# Altium footprint library 6U6DA_0107.PcbLib: 53 footprints (part 3 of 4)
Each footprint in its own frame and in the unit in brackets; x right, y up, seen from the top. Pads: shape width x height; smd on the part's side, far side on the other; paste and mask are expansions set on the pad; w line width, h text height; cw(c..) or ccw(c..) is an arc to the next point about the centre after c.
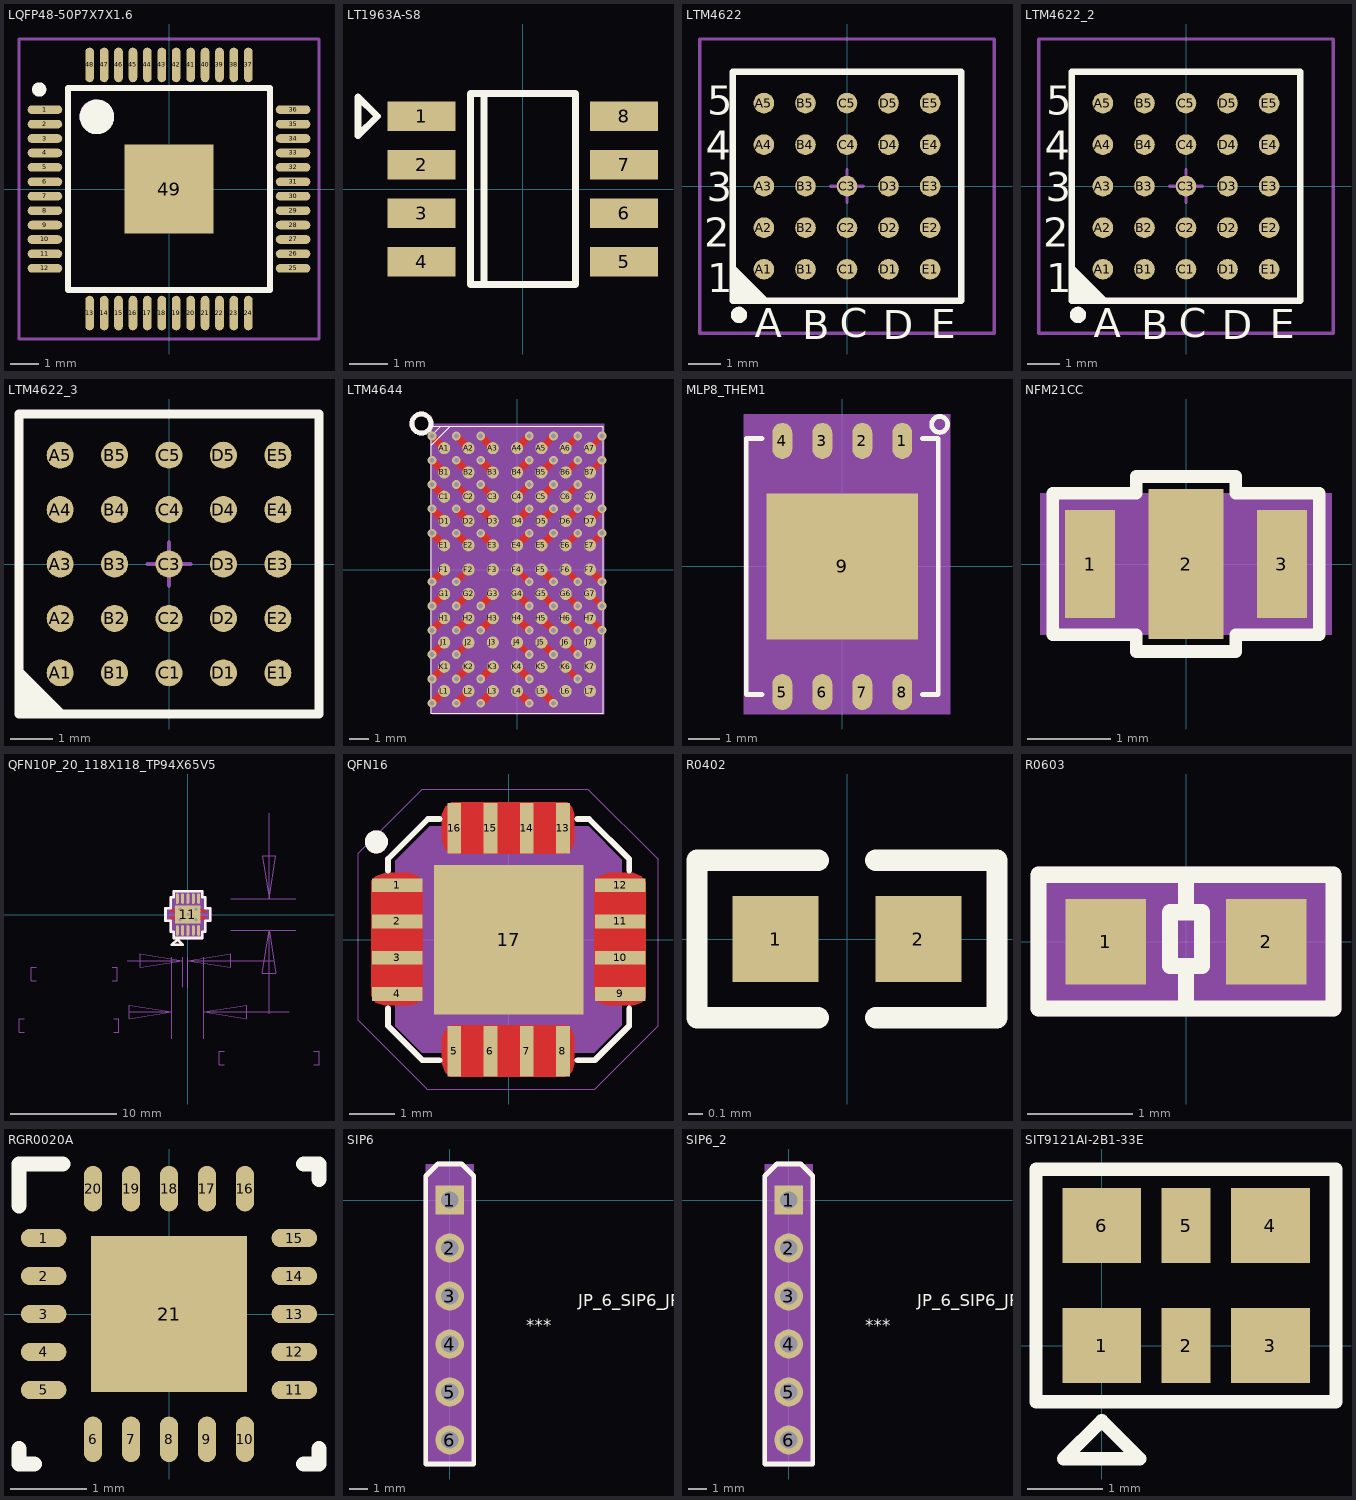
[diagram p2: the footprints below, top view; thin cyan lines are the x and y axes]

## LQFP48-50P7X7X1.6 [mm] "LQFP, 48-Leads, Body 9.2x9.2mm (max), Pitch 0.50mm, IPC Medium Density"
height 1.6
pads (49):
  oval 1.2x0.3 smd: 1(-4.3,2.75) 2(-4.3,2.25) 3(-4.3,1.75) 4(-4.3,1.25) 5(-4.3,0.75) 6(-4.3,0.25) 7(-4.3,-0.25) 8(-4.3,-0.75) 9(-4.3,-1.25) 10(-4.3,-1.75) 11(-4.3,-2.25) 12(-4.3,-2.75) 25(4.3,-2.75) 26(4.3,-2.25) 27(4.3,-1.75) 28(4.3,-1.25) 29(4.3,-0.75) 30(4.3,-0.25) 31(4.3,0.25) 32(4.3,0.75) 33(4.3,1.25) 34(4.3,1.75) 35(4.3,2.25) 36(4.3,2.75)
  oval 0.3x1.2 smd: 13(-2.75,-4.3) 14(-2.25,-4.3) 15(-1.75,-4.3) 16(-1.25,-4.3) 17(-0.75,-4.3) 18(-0.25,-4.3) 19(0.25,-4.3) 20(0.75,-4.3) 21(1.25,-4.3) 22(1.75,-4.3) 23(2.25,-4.3) 24(2.75,-4.3) 37(2.75,4.3) 38(2.25,4.3) 39(1.75,4.3) 40(1.25,4.3) 41(0.75,4.3) 42(0.25,4.3) 43(-0.25,4.3) 44(-0.75,4.3) 45(-1.25,4.3) 46(-1.75,4.3) 47(-2.25,4.3) 48(-2.75,4.3)
  rect 3.1x3.1 smd: 49(0,0)
Top Overlay:
  circle w0.6: c-2.5,2.5 r0.3
  circle w0.25: c-4.5,3.45 r0.125
  lines w0.2: -3.5,-3.5 3.5,-3.5 3.5,3.5 -3.5,3.5 -3.5,-3.5
Mechanical 13:
  circle w0.1: c-2.55,2.55 r0.5
  lines w0.1: -3.5,-3.5 3.5,-3.5 3.5,3.5 -3.5,3.5 -3.5,-3.5
Mechanical 15:
  lines w0.1: -0.5,0 0.5,0 ; 0,-0.5 0,0.5 ; -5.2,-5.2 5.2,-5.2 5.2,5.2 -5.2,5.2 -5.2,-5.2
3D body: height 1.6, standoff 0.05, extent -3.5,-3.5 3.5,3.5

## LT1963A-S8 [mil]
pads (8):
  rect 70x30 smd: 1(-104.33,75) 2(-104.33,25) 3(-104.33,-25) 4(-104.33,-75) 5(104.33,-75) 6(104.33,-25) 7(104.33,25) 8(104.33,75)
Top Overlay:
  lines w7: -40,-98.43 -40,98.43 ; -170,55 -150,75 -170,95 -170,55 ; -54.02,-98.43 -54.02,98.43 54.2,98.43 54.2,-98.43 -54.02,-98.43

## LTM4622 [mm]
height 1.2
pads (25):
  round 0.63 smd: A1(-2.54,-2.54) A2(-2.54,-1.27) A3(-2.54,0) A4(-2.54,1.27) A5(-2.54,2.54) B1(-1.27,-2.54) B2(-1.27,-1.27) B3(-1.27,0) B4(-1.27,1.27) B5(-1.27,2.54) C1(0,-2.54) C2(0,-1.27) C3(0,0) C4(0,1.27) C5(0,2.54) D1(1.27,-2.54) D2(1.27,-1.27) D3(1.27,0) D4(1.27,1.27) D5(1.27,2.54) E1(2.54,-2.54) E2(2.54,-1.27) E3(2.54,0) E4(2.54,1.27) E5(2.54,2.54)
Top Overlay:
  circle w0.25: c-3.302,-3.937 r0.125
  region: -3.5,-2.5 -2.5,-3.5 -3.5,-3.5
  lines w0.2: -3.5,-2.5 -2.5,-3.5 ; -3.5,-3.5 -3.5,3.5 3.5,3.5 3.5,-3.5 -3.5,-3.5
  text "A" at -2.819,-4.623 h0.89
  text "B" at -1.372,-4.674 h0.89
  text "C" at -0.229,-4.623 h0.89
  text "D" at 1.092,-4.674 h0.89
  text "E" at 2.565,-4.648 h0.89
  text "1" at -4.267,-3.251 h0.89
  text "2" at -4.369,-1.854 h0.89
  text "3" at -4.293,-0.457 h0.89
  text "4" at -4.318,0.813 h0.89
  text "5" at -4.267,2.184 h0.89
Mechanical 13:
  lines w0.1: -3.5,-3.5 -3.5,3.5 3.5,3.5 3.5,-3.5 -3.5,-3.5
Mechanical 15:
  lines w0.1: -0.5,0 0.5,0 ; 0,-0.5 0,0.5 ; -4.5,-4.5 -4.5,4.5 4.5,4.5 4.5,-4.5 -4.5,-4.5
3D body: height 1.55, standoff 0, extent -3.5,-3.5 3.5,3.5

## LTM4622_2 [mm]
pads (25):
  round 0.63 smd: A1(-2.54,-2.54) A2(-2.54,-1.27) A3(-2.54,0) A4(-2.54,1.27) A5(-2.54,2.54) B1(-1.27,-2.54) B2(-1.27,-1.27) B3(-1.27,0) B4(-1.27,1.27) B5(-1.27,2.54) C1(0,-2.54) C2(0,-1.27) C3(0,0) C4(0,1.27) C5(0,2.54) D1(1.27,-2.54) D2(1.27,-1.27) D3(1.27,0) D4(1.27,1.27) D5(1.27,2.54) E1(2.54,-2.54) E2(2.54,-1.27) E3(2.54,0) E4(2.54,1.27) E5(2.54,2.54)
Top Overlay:
  circle w0.25: c-3.302,-3.937 r0.125
  region: -3.5,-2.5 -2.5,-3.5 -3.5,-3.5
  lines w0.2: -3.5,-2.5 -2.5,-3.5 ; -3.5,-3.5 3.5,-3.5 3.5,3.5 -3.5,3.5 -3.5,-3.5
  text "5" at -4.267,2.184 h0.89
  text "4" at -4.318,0.813 h0.89
  text "3" at -4.293,-0.457 h0.89
  text "2" at -4.369,-1.854 h0.89
  text "1" at -4.267,-3.251 h0.89
  text "E" at 2.565,-4.648 h0.89
  text "D" at 1.092,-4.674 h0.89
  text "C" at -0.229,-4.623 h0.89
  text "B" at -1.372,-4.674 h0.89
  text "A" at -2.819,-4.623 h0.89
Mechanical 13:
  lines w0.1: -3.5,-3.5 3.5,-3.5 3.5,3.5 -3.5,3.5 -3.5,-3.5
Mechanical 15:
  lines w0.1: -0.5,0 0.5,0 ; 0,-0.5 0,0.5 ; -4.5,-4.5 4.5,-4.5 4.5,4.5 -4.5,4.5 -4.5,-4.5
3D body: height 1.55, standoff 0, extent -3.5,-3.5 3.5,3.5

## LTM4622_3 [mm]
pads (25):
  round 0.63 smd: A1(-2.54,-2.54) A2(-2.54,-1.27) A3(-2.54,0) A4(-2.54,1.27) A5(-2.54,2.54) B1(-1.27,-2.54) B2(-1.27,-1.27) B3(-1.27,0) B4(-1.27,1.27) B5(-1.27,2.54) C1(0,-2.54) C2(0,-1.27) C3(0,0) C4(0,1.27) C5(0,2.54) D1(1.27,-2.54) D2(1.27,-1.27) D3(1.27,0) D4(1.27,1.27) D5(1.27,2.54) E1(2.54,-2.54) E2(2.54,-1.27) E3(2.54,0) E4(2.54,1.27) E5(2.54,2.54)
Top Overlay:
  region: -3.5,-2.5 -2.5,-3.5 -3.5,-3.5
  lines w0.2: -3.5,-2.5 -2.5,-3.5 ; -3.5,-3.5 3.5,-3.5 3.5,3.5 -3.5,3.5 -3.5,-3.5
Mechanical 13:
  lines w0.1: -3.5,-3.5 3.5,-3.5 3.5,3.5 -3.5,3.5 -3.5,-3.5
Mechanical 15:
  lines w0.1: -0.5,0 0.5,0 ; 0,-0.5 0,0.5
3D body: height 1.55, standoff 0, extent -3.5,-3.5 3.5,3.5

## LTM4644 [mm] "LTM4644"
pads (77):
  round 0.635 smd: A1(-3.81,6.35) A2(-2.54,6.35) A3(-1.27,6.35) A4(0,6.35) A5(1.27,6.35) A6(2.54,6.35) A7(3.81,6.35) B1(-3.81,5.08) B2(-2.54,5.08) B3(-1.27,5.08) B4(0,5.08) B5(1.27,5.08) B6(2.54,5.08) B7(3.81,5.08) C1(-3.81,3.81) C2(-2.54,3.81) C3(-1.27,3.81) C4(0,3.81) C5(1.27,3.81) C6(2.54,3.81) C7(3.81,3.81) D1(-3.81,2.54) D2(-2.54,2.54) D3(-1.27,2.54) D4(0,2.54) D5(1.27,2.54) D6(2.54,2.54) D7(3.81,2.54) E1(-3.81,1.27) E2(-2.54,1.27) E3(-1.27,1.27) E4(0,1.27) E5(1.27,1.27) E6(2.54,1.27) E7(3.81,1.27) F1(-3.81,0) F2(-2.54,0) F3(-1.27,0) F4(0,0) F5(1.27,0) F6(2.54,0) F7(3.81,0) G1(-3.81,-1.27) G2(-2.54,-1.27) G3(-1.27,-1.27) G4(0,-1.27) G5(1.27,-1.27) G6(2.54,-1.27) G7(3.81,-1.27) H1(-3.81,-2.54) H2(-2.54,-2.54) H3(-1.27,-2.54) H4(0,-2.54) H5(1.27,-2.54) H6(2.54,-2.54) H7(3.81,-2.54) J1(-3.81,-3.81) J2(-2.54,-3.81) J3(-1.27,-3.81) J4(0,-3.81) J5(1.27,-3.81) J6(2.54,-3.81) J7(3.81,-3.81) K1(-3.81,-5.08) K2(-2.54,-5.08) K3(-1.27,-5.08) K4(0,-5.08) K5(1.27,-5.08) K6(2.54,-5.08) K7(3.81,-5.08) L1(-3.81,-6.35) L2(-2.54,-6.35) L3(-1.27,-6.35) L4(0,-6.35) L5(1.27,-6.35) L6(2.54,-6.35) L7(3.81,-6.35)
via -3.175,-4.445 diameter 0.457 hole 0.254
via 3.175,-3.175 diameter 0.457 hole 0.254
via 0.635,-4.445 diameter 0.457 hole 0.254
via -3.175,-0.635 diameter 0.457 hole 0.254
via -1.905,4.445 diameter 0.457 hole 0.254
via -3.175,4.445 diameter 0.457 hole 0.254
via 3.175,5.715 diameter 0.457 hole 0.254
via 0.635,4.445 diameter 0.457 hole 0.254
via 3.175,6.985 diameter 0.457 hole 0.254
via 3.175,3.175 diameter 0.457 hole 0.254
via 3.175,-1.905 diameter 0.457 hole 0.254
via 4.445,-3.175 diameter 0.457 hole 0.254
via 4.445,1.905 diameter 0.457 hole 0.254
via 4.445,5.715 diameter 0.457 hole 0.254
via 3.175,-5.715 diameter 0.457 hole 0.254
via 3.175,1.905 diameter 0.457 hole 0.254
via 0.635,-0.635 diameter 0.457 hole 0.254
via 4.445,3.175 diameter 0.457 hole 0.254
via 4.445,-1.905 diameter 0.457 hole 0.254
via 4.445,6.985 diameter 0.457 hole 0.254
via 3.175,4.445 diameter 0.457 hole 0.254
via 3.175,-0.635 diameter 0.457 hole 0.254
via 3.175,-4.445 diameter 0.457 hole 0.254
via -3.175,3.175 diameter 0.457 hole 0.254
via -4.445,3.175 diameter 0.457 hole 0.254
via -4.445,-0.635 diameter 0.457 hole 0.254
via -3.175,-1.905 diameter 0.457 hole 0.254
via -4.445,-1.905 diameter 0.457 hole 0.254
via -4.445,6.985 diameter 0.457 hole 0.254
via -4.445,4.445 diameter 0.457 hole 0.254
via -3.175,6.985 diameter 0.457 hole 0.254
via -1.905,6.985 diameter 0.457 hole 0.254
via 1.905,1.905 diameter 0.457 hole 0.254
via 0.635,1.905 diameter 0.457 hole 0.254
via -1.905,1.905 diameter 0.457 hole 0.254
via -1.905,5.715 diameter 0.457 hole 0.254
via 0.635,5.715 diameter 0.457 hole 0.254
via 1.905,5.715 diameter 0.457 hole 0.254
via -1.905,-3.175 diameter 0.457 hole 0.254
via 1.905,-3.175 diameter 0.457 hole 0.254
via 0.635,-3.175 diameter 0.457 hole 0.254
via 1.905,-6.985 diameter 0.457 hole 0.254
via 0.635,-6.985 diameter 0.457 hole 0.254
via -1.905,-6.985 diameter 0.457 hole 0.254
via -4.445,-4.445 diameter 0.457 hole 0.254
via -4.445,-5.715 diameter 0.457 hole 0.254
via -3.175,-5.715 diameter 0.457 hole 0.254
via -4.445,1.905 diameter 0.457 hole 0.254
via -3.175,1.905 diameter 0.457 hole 0.254
via -4.445,5.715 diameter 0.457 hole 0.254
via -3.175,5.715 diameter 0.457 hole 0.254
via -4.445,-6.985 diameter 0.457 hole 0.254
via -4.445,-3.175 diameter 0.457 hole 0.254
via -3.175,-3.175 diameter 0.457 hole 0.254
via -3.175,-6.985 diameter 0.457 hole 0.254
via 1.905,4.445 diameter 0.457 hole 0.254
via 0.635,6.985 diameter 0.457 hole 0.254
via 1.905,6.985 diameter 0.457 hole 0.254
via -1.905,3.175 diameter 0.457 hole 0.254
via 1.905,3.175 diameter 0.457 hole 0.254
via 0.635,3.175 diameter 0.457 hole 0.254
via 1.905,-4.445 diameter 0.457 hole 0.254
via 1.905,-0.635 diameter 0.457 hole 0.254
via 4.445,-0.635 diameter 0.457 hole 0.254
via -1.905,-5.715 diameter 0.457 hole 0.254
via 0.635,-5.715 diameter 0.457 hole 0.254
via 1.905,-1.905 diameter 0.457 hole 0.254
via 0.635,-1.905 diameter 0.457 hole 0.254
via -1.905,-1.905 diameter 0.457 hole 0.254
Top Layer:
  lines w0.305: -3.175,-4.445 -2.54,-3.81 ; -3.175,-0.635 -2.54,0 ; -3.175,4.445 -2.54,3.81 ; -1.905,4.445 -1.27,3.81 ; 0,-3.81 0.635,-4.445 ; 0,0 0.635,-0.635 ; 0,3.81 0.635,4.445 ; 2.54,-5.08 3.175,-5.715 ; 2.54,-3.81 3.175,-4.445 ; 2.54,-2.54 3.175,-3.175 ; 2.54,-1.27 3.175,-1.905 ; 2.54,0 3.175,-0.635 ; 2.54,1.27 3.175,1.905 ; 2.54,2.54 3.175,3.175 ; 2.54,3.81 3.175,4.445 ; 2.54,5.08 3.175,5.715 ; 2.54,6.35 3.175,6.985 ; 3.81,-2.54 4.445,-3.175 ; 3.81,-1.27 4.445,-1.905 ; 3.81,1.27 4.445,1.905 ; 3.81,2.54 4.445,3.175 ; 3.81,5.08 4.445,5.715 ; 3.81,6.35 4.445,6.985
  lines w0.381: -4.445,-6.985 -3.81,-6.35 ; -4.445,-5.715 -3.81,-5.08 ; -4.445,-4.445 -3.81,-3.81 ; -4.445,-3.175 -3.81,-2.54 ; -4.445,-1.905 -3.81,-1.27 ; -4.445,-0.635 -3.81,0 ; -4.445,1.905 -3.81,1.27 ; -4.445,3.175 -3.81,2.54 ; -4.445,4.445 -3.81,3.81 ; -4.445,5.715 -3.81,5.08 ; -4.445,6.985 -3.81,6.35 ; -3.175,-6.985 -2.54,-6.35 ; -3.175,-5.715 -2.54,-5.08 ; -3.175,-3.175 -2.54,-2.54 ; -3.175,-1.905 -2.54,-1.27 ; -3.175,1.905 -2.54,1.27 ; -3.175,3.175 -2.54,2.54 ; -3.175,5.715 -2.54,5.08 ; -3.175,6.985 -2.54,6.35 ; -1.905,-6.985 -1.27,-6.35 ; -1.905,-5.715 -1.27,-5.08 ; -1.905,-3.175 -1.27,-2.54 ; -1.905,-1.905 -1.27,-1.27 ; -1.905,1.905 -1.27,1.27 ; -1.905,3.175 -1.27,2.54 ; -1.905,5.715 -1.27,5.08 ; -1.905,6.985 -1.27,6.35 ; 0,-6.35 0.635,-6.985 ; 0,-5.08 0.635,-5.715 ; 0,-2.54 0.635,-3.175 ; 0,-1.27 0.635,-1.905 ; 0,1.27 0.635,1.905 ; 0,2.54 0.635,3.175 ; 0,5.08 0.635,5.715 ; 0,6.35 0.635,6.985 ; 1.27,-6.35 1.905,-6.985 ; 1.27,-3.81 1.905,-4.445 ; 1.27,-2.54 1.905,-3.175 ; 1.27,-1.27 1.905,-1.905 ; 1.27,0 1.905,-0.635 ; 1.27,1.27 1.905,1.905 ; 1.27,2.54 1.905,3.175 ; 1.27,3.81 1.905,4.445 ; 1.27,5.08 1.905,5.715 ; 1.27,6.35 1.905,6.985 ; 3.81,0 4.445,-0.635
Top Overlay:
  lines w0.05: -4,7.5 -4.5,7 -4.5,6.5 ; -4.5,6.5 -3.5,7.5 -4.5,6.5 ; -4.5,-7.5 4.5,-7.5 4.5,7.5 -4.5,7.5 -4.5,-7.5
  lines w0.25: -5.5,7.635 ccw(c-5,7.635) -5,7.135 ccw(c-5,7.635) -4.5,7.635 ccw(c-5,7.635) -5,8.135 ccw(c-5,7.635) -5.5,7.635
Mechanical 5:
  lines w0.05: -4,7.5 -4.5,7 -4.5,6.5 ; -4.5,6.5 -3.5,7.5 -4.5,6.5 ; -4.5,-7.5 4.5,-7.5 4.5,7.5 -4.5,7.5 -4.5,-7.5
  lines w0.25: -5.5,7.635 cw(c-5,7.635) -5,8.135 cw(c-5,7.635) -4.5,7.635 cw(c-5,7.635) -5,7.135 cw(c-5,7.635) -5.5,7.635
  text "U136" at 4.954,1.557 h0.64
Mechanical 14:
  text "L6" at 2.54,-5.842 h0.64
  text "K5" at 1.27,-4.572 h0.64
  text "J2" at -2.54,-3.302 h0.64
  text "H6" at 2.54,-2.032 h0.64
  text "J4" at 0,-3.302 h0.64
  text "F2" at -2.54,0.508 h0.64
  text "C3" at -1.27,4.318 h0.64
  text "C2" at -2.54,4.318 h0.64
  text "B6" at 2.54,5.588 h0.64
  text "C4" at 0,4.318 h0.64
  text "A6" at 2.54,6.858 h0.64
  text "D6" at 2.54,3.048 h0.64
  text "G6" at 2.54,-0.762 h0.64
  text "J7" at 3.81,-3.302 h0.64
  text "K7" at 3.81,-4.572 h0.64
  text "H7" at 3.81,-2.032 h0.64
  text "E7" at 3.81,1.778 h0.64
  text "B7" at 3.81,5.588 h0.64
  text "K6" at 2.54,-4.572 h0.64
  text "E6" at 2.54,1.778 h0.64
  text "F4" at 0,0.508 h0.64
  text "D7" at 3.81,3.048 h0.64
  text "G7" at 3.81,-0.762 h0.64
  text "A7" at 3.81,6.858 h0.64
  text "C6" at 2.54,4.318 h0.64
  text "F6" at 2.54,0.508 h0.64
  text "J6" at 2.54,-3.302 h0.64
  text "C7" at 3.81,4.318 h0.64
  text "J3" at -1.27,-3.302 h0.64
  text "L7" at 3.81,-5.842 h0.64
  text "F3" at -1.27,0.508 h0.64
  text "D2" at -2.54,3.048 h0.64
  text "D1" at -3.81,3.048 h0.64
  text "F1" at -3.81,0.508 h0.64
  text "G2" at -2.54,-0.762 h0.64
  text "G1" at -3.81,-0.762 h0.64
  text "A1" at -3.81,6.858 h0.64
  text "C1" at -3.81,4.318 h0.64
  text "A2" at -2.54,6.858 h0.64
  text "A3" at -1.27,6.858 h0.64
  text "E5" at 1.27,1.778 h0.64
  text "E4" at 0,1.778 h0.64
  text "E3" at -1.27,1.778 h0.64
  text "B3" at -1.27,5.588 h0.64
  text "B4" at 0,5.588 h0.64
  text "B5" at 1.27,5.588 h0.64
  text "H3" at -1.27,-2.032 h0.64
  text "H5" at 1.27,-2.032 h0.64
  text "H4" at 0,-2.032 h0.64
  text "L5" at 1.27,-5.842 h0.64
  text "L4" at 0,-5.842 h0.64
  text "L3" at -1.27,-5.842 h0.64
  text "J1" at -3.81,-3.302 h0.64
  text "K1" at -3.81,-4.572 h0.64
  text "K2" at -2.54,-4.572 h0.64
  text "E1" at -3.81,1.778 h0.64
  text "E2" at -2.54,1.778 h0.64
  text "B1" at -3.81,5.588 h0.64
  text "B2" at -2.54,5.588 h0.64
  text "L1" at -3.81,-5.842 h0.64
  text "H1" at -3.81,-2.032 h0.64
  text "H2" at -2.54,-2.032 h0.64
  text "L2" at -2.54,-5.842 h0.64
  text "C5" at 1.27,4.318 h0.64
  text "A4" at 0,6.858 h0.64
  text "A5" at 1.27,6.858 h0.64
  text "D3" at -1.27,3.048 h0.64
  text "D5" at 1.27,3.048 h0.64
  text "D4" at 0,3.048 h0.64
  text "J5" at 1.27,-3.302 h0.64
  text "F5" at 1.27,0.508 h0.64
  text "F7" at 3.81,0.508 h0.64
  text "K3" at -1.27,-4.572 h0.64
  text "K4" at 0,-4.572 h0.64
  text "G5" at 1.27,-0.762 h0.64
  text "G4" at 0,-0.762 h0.64
  text "G3" at -1.27,-0.762 h0.64
Mechanical 16:
  circle w0.05: c0,0 r0.35
  region: -4.445,-7.55 4.55,-7.55 4.55,7.625 -4.445,7.625
  lines w0.05: -0.5,0 0.5,0 ; 0,-0.5 0,0.5
  lines w0.1: -4.5,6.5 -3.5,7.5 ; -4.5,6.6 -3.6,7.5 ; -4.5,6.7 -3.7,7.5 ; -4.5,6.8 -3.8,7.5 ; -4.5,6.9 -3.9,7.5 ; -4.5,7 -4,7.5 ; -4.5,7.1 -4.1,7.5 ; -4.5,7.2 -4.2,7.5 ; -4.5,7.3 -4.3,7.5 ; -4.5,7.4 -4.4,7.5 ; -4.5,-7.5 -4.5,7.5 4.5,7.5 4.5,-7.5 -4.5,-7.5
Mechanical 17:
  text "LTM4644IY" at 7.62,4.826 h0.64
3D body: height 3.81, standoff 0, extent -4.445,-7.55 4.55,7.625

## MLP8_THEM1 [mil] "MLP8_THEM1"
pads (9):
  oval 25x45 smd: 1(75,157) 2(25,157) 3(-25,157) 4(-75,157) 5(-75,-157) 6(-25,-157) 7(25,-157) 8(75,-157)
  rect 188.98x183.07 smd: 9(0,0)
Top Overlay:
  lines w6: -100,-160 -120,-160 -120,160 -100,160 ; 100,-160 120,-160 120,160 100,160 ; 111.81,177.66 cw(c121.81,177.66) 121.81,187.66 cw(c121.81,177.66) 131.81,177.66 cw(c121.81,177.66) 121.81,167.66 cw(c121.81,177.66) 111.81,177.66
Mechanical 5:
  lines w6: -100,-160 -120,-160 -120,160 -100,160 ; 100,-160 120,-160 120,160 100,160 ; 111.81,177.66 ccw(c121.81,177.66) 121.81,167.66 ccw(c121.81,177.66) 131.81,177.66 ccw(c121.81,177.66) 121.81,187.66 ccw(c121.81,177.66) 111.81,177.66
  text "U17" at -140.75,87.16 h25
Mechanical 14:
  text "8" at 75,-161 h10
  text "3" at -25,153 h10
  text "1" at 75,153 h10
  text "5" at -75,-161 h10
  text "7" at 25,-161 h10
  text "2" at 25,153 h10
  text "6" at -25,-161 h10
  text "4" at -75,153 h10
  text "9" at 0,-20 h25
Mechanical 16:
  region: -123,-184.5 134.81,-184.5 134.81,190.66 -123,190.66
  lines w6: -100,-160 -120,-160 -120,160 -100,160 ; 100,-160 120,-160 120,160 100,160
Mechanical 17:
  text "MT25QU256ABA1EW9-0SIT" at -100,-60 h25
  text ".Designator" at -10,-10 h31.1
3D body: height 150, standoff 0, extent -123,-184.5 134.81,190.66

## NFM21CC [mm] "NFM21CC"
pads (3):
  rect 0.6x1.3 smd: 1(-1.15,0) 3(1.15,0)
  rect 0.9x1.8 smd: 2(0,0)
Top Overlay:
  lines w0.15: -1.6,-0.85 -1.6,0.85 -0.6,0.85 -0.6,1.05 0.6,1.05 0.6,0.85 1.6,0.85 1.6,-0.85 0.6,-0.85 0.6,-1.05 -0.6,-1.05 -0.6,-0.85 -1.6,-0.85
Mechanical 14:
  text "3" at 1.15,-0.203 h0.25
  text "1" at -1.15,-0.203 h0.25
  text "2" at 0,-0.203 h0.25
Mechanical 16:
  region: -1.75,0.85 -1.75,-0.85 1.75,-0.85 1.75,0.85
Mechanical 20:
  text "NFM21PC225B0J3" at -0.5,1.53 h0.25
3D body: height 3.81, standoff 0, extent -1.75,-0.85 1.75,0.85

## QFN10P_20_118X118_TP94X65V5 [mil] "QFN10P_20_118X118_TP94X65V5"
pads (16):
  oval 11x39 smd: 1(-39.37,-59.06) 2(-19.69,-59.06) 3(0,-59.06) 4(19.69,-59.06) 5(39.37,-59.06) 6(39.37,59.06) 7(19.69,59.06) 8(0,59.06) 9(-19.69,59.06) 10(-39.37,59.06)
  rect 94.49x64.96 smd: 11(0,0)
  round 22 hole 12: 12(-29.53,-19.69) 13(29.53,-19.69) 14(-29.53,19.69) 15(29.53,19.69) 16(0,0)
Top Layer:
  rectangle: -67.17,-18.43 -39.37,-7.01
  rectangle: -67.17,7.16 -39.37,18.58
  rectangle: 39.37,-18.43 67.47,-7.01
  rectangle: 39.37,7.16 67.47,18.58
Top Overlay:
  lines w10: -83,-23 -64.06,-23 -64.06,-64.06 -52.87,-64.06 -52.87,-86.56 52.87,-86.56 52.87,-64.06 64.06,-64.06 64.06,-23 83,-23 83,23 64.06,23 64.06,64.06 52.87,64.06 52.87,86.56 -52.87,86.56 -52.87,64.06 -64.06,64.06 -64.06,23 -83,23 -83,-23 ; -59.37,-111.56 -19.37,-111.56 -39.37,-91.56 -59.37,-111.56
Top Paste:
  rectangle: -67.17,-18.43 -39.37,-7.01
  rectangle: -67.17,7.16 -39.37,18.58
  rectangle: 39.37,-18.43 67.47,-7.01
  rectangle: 39.37,7.16 67.47,18.58
Top Solder:
  region: -44,-5 -70,-5 -70,-21 -44,-21
  region: -44,21 -70,21 -70,5 -44,5
  rectangle: 44,-21 70,-5
  rectangle: 44,5 70,21
Mechanical 5:
  lines w10: -83,-23 -83,23 -64.06,23 -64.06,64.06 -52.87,64.06 -52.87,86.56 52.87,86.56 52.87,64.06 64.06,64.06 64.06,23 83,23 83,-23 64.06,-23 64.06,-64.06 52.87,-64.06 52.87,-86.56 -52.87,-86.56 -52.87,-64.06 -64.06,-64.06 -64.06,-23 -83,-23 ; -59.37,-111.56 -39.37,-91.56 -19.37,-111.56 -59.37,-111.56
  text "U97" at 48.47,-100.62 h25
Mechanical 13:
  lines w1: -605.5,-435 -624.5,-435 -624.5,-385 -605.5,-385 ; -560,-245 -579,-245 -579,-195 -560,-195 ; -280,-245 -261,-245 -261,-195 -280,-195 ; -274.5,-435 -255.5,-435 -255.5,-385 -274.5,-385 ; -223.5,-170 -19.69,-170 ; -218,-360 -59.06,-360 ; -59.06,-458.43 -59.06,-157.48 ; -19.69,-268.43 -19.69,-157.48 ; 0,-268.43 0,-157.48 ; 59.06,-458.43 59.06,-157.48 ; 134.5,-555 115.5,-555 115.5,-505 134.5,-505 ; 157.48,-59.06 398.43,-59.06 ; 157.48,59.06 398.43,59.06 ; 300,-367.5 300,-59.06 ; 300,374.02 300,59.06 ; 314.96,-170 0,-170 ; 374.02,-360 59.06,-360 ; 465.5,-555 484.5,-555 484.5,-505 465.5,-505 ; -59.06,-360 -216.54,-335.39 -216.54,-384.61 -59.06,-360 ; -19.69,-170 -177.17,-145.39 -177.17,-194.61 -19.69,-170 ; 0,-170 157.48,-194.61 157.48,-145.39 0,-170 ; 59.06,-360 216.54,-384.61 216.54,-335.39 59.06,-360 ; 300,-59.06 275.39,-216.54 324.61,-216.54 300,-59.06 ; 300,59.06 324.61,216.54 275.39,216.54 300,59.06
  text "0.5" at -490,-145 h36
  text "19.69" at -541,-245 h36
  text "3" at -459,-335 h36
  text "118.11" at -586.5,-435 h36
  text "3" at 281,-455 h36
  text "118.11" at 153.5,-555 h36
Mechanical 14:
  text "11" at 22.4,0 h28
  text "12" at -7.13,-19.69 h28
  text "15" at 51.93,19.69 h28
  text "16" at 22.4,0 h28
  text "14" at -7.13,19.69 h28
  text "13" at 51.93,-19.69 h28
  text "8" at 11.2,59.06 h28
  text "4" at 30.89,-59.06 h28
  text "10" at -16.97,59.06 h28
  text "6" at 50.57,59.06 h28
  text "5" at 50.57,-59.06 h28
  text "3" at 11.2,-59.06 h28
  text "2" at -8.49,-59.06 h28
  text "9" at -8.49,59.06 h28
  text "7" at 30.89,59.06 h28
  text "1" at -28.17,-59.06 h28
Mechanical 16:
  region: -59.06,-59.06 59.06,-59.06 59.06,59.06 -59.06,59.06
  pour cut-out: 52.87,86.56 52.87,64.06 64.06,64.06 64.06,23 83,23 83,-23 64.06,-23 64.06,-64.06 52.87,-64.06 52.87,-86.56 -52.87,-86.56 -52.87,-64.06 -64.06,-64.06 -64.06,-23 -83,-23 -83,23 -64.06,23 -64.06,64.06 -52.87,64.06 -52.87,86.56
  lines w1: -59.06,-59.06 59.06,-59.06 59.06,59.06 -59.06,59.06 -59.06,-59.06
Mechanical 17:
  text ".Designator" at 6,1.67 h5
3D body: height 150, standoff 0, extent -59.06,-59.06 59.06,59.06

## QFN16 [mil] "QFN16"
pads (17):
  rect 44x12 smd: 1(-97,47.24) 2(-97,15.75) 3(-97,-15.75) 4(-97,-47.24) 9(97,-47.24) 10(97,-15.75) 11(97,15.75) 12(97,47.24)
  rect 12x44 smd: 5(-47.24,-97) 6(-15.75,-97) 7(15.75,-97) 8(47.24,-97) 13(47.24,97) 14(15.75,97) 15(-15.75,97) 16(-47.24,97)
  rect 130x130 smd: 17(0,0)
Top Layer:
  region: -50,119.5 51,119.5 55,115.5 57,109.5 57,85.5 55,78.5 49,74.5 -51,74.5 -55,78.5 -58,86.5 -58,108.5 -55,115.5
  region: -50,-74.5 51,-74.5 55,-78.5 57,-84.5 57,-108.5 55,-115.5 49,-119.5 -51,-119.5 -55,-115.5 -58,-107.5 -58,-85.5 -55,-78.5
  region: 119.5,50 119.5,-51 115.5,-55 109.5,-57 85.5,-57 78.5,-55 74.5,-49 74.5,51 78.5,55 86.5,58 108.5,58 115.5,55
  region: -74.5,50 -74.5,-51 -78.5,-55 -84.5,-57 -108.5,-57 -115.5,-55 -119.5,-49 -119.5,51 -115.5,55 -107.5,58 -85.5,58 -78.5,55
Top Overlay:
  circle w10: c-115,85 r5
  lines w5: -105,-60 -105,-75 -75,-105 -60,-105 ; -105,60 -105,70 -70,105 -60,105 ; 60,-105 75,-105 105,-75 105,-60 ; 60,105 70,105 105,70 105,60
Mechanical 5:
  circle w10: c-115,85 r5
  lines w5: -105,-60 -105,-75 -75,-105 -60,-105 ; -105,60 -105,70 -70,105 -60,105 ; 60,-105 75,-105 105,-75 105,-60 ; 60,105 70,105 105,70 105,60
  text "MAX8556_1_QFN16_MAX8556ETE+" at 291,-81.67 h20
  text "U78" at 210.68,-32.7 h25
Mechanical 14:
  text "16" at 16.76,97 h80
  text "8" at 79.24,-97 h80
  text "7" at 47.75,-97 h80
  text "9" at 129,-47.24 h80
  text "10" at 161,-15.75 h80
  text "11" at 161,15.75 h80
  text "13" at 111.24,97 h80
  text "12" at 161,47.24 h80
  text "6" at 16.25,-97 h80
  text "5" at -15.24,-97 h80
  text "4" at -65,-47.24 h80
  text "3" at -65,-15.75 h80
  text "2" at -65,15.75 h80
  text "1" at -65,47.24 h80
  text "14" at 79.75,97 h80
  text "15" at 48.25,97 h80
  text "17" at 64,0 h80
Mechanical 16:
  region: 98.43,-74.58 75,-98 74.58,-98.43 -75.58,-98.43 -76,-98 -98.43,-75.58 -98.43,68.58 -98,69 -68.58,98.43 69.58,98.43 70,98 98.43,69.58
  lines w1: -131,-70 -71.49,-129.48 -71,-130 75,-130 130,-75 130,70 69,131 -65,131 -75,131 -131,75 -131,-70
Mechanical 17:
  text ".Designator" at 6,-1.67 h5
  text "MAX8556ETE+" at 13,-100 h20
3D body: height 150, standoff 0, extent -98.43,-98.43 98.43,98.43

## R0402 [mm]
pads (2):
  rect 0.6x0.6 smd: 1(-0.5,0) 2(0.5,0)
Top Overlay:
  lines w0.15: -0.2,-0.55 -1.05,-0.55 -1.05,0.55 -0.2,0.55 ; 0.2,-0.55 1.05,-0.55 1.05,0.55 0.2,0.55

## R0603 [mil] "R0603"
pads (2):
  rect 30x32 smd: 1(-30,0) 2(30,0)
Top Overlay:
  lines w6: 0,-25 0,-10 ; 0,24 0,11 ; 0,11 -6,11 -6,-9 6,-9 6,11 0,11 ; -55,-25 55,-25 55,25 -55,25 -55,-25
Mechanical 14:
  text "1" at -40,0 h25
  text "2" at 20,0 h25
Mechanical 16:
  region: -56,-25 -56,27 56,27 56,-25
  lines w6: 0,-25 0,-10 ; 0,24 0,11 ; 0,11 -6,11 -6,-9 6,-9 6,11 0,11 ; -55,-25 55,-25 55,25 -55,25 -55,-25
Mechanical 20:
  text "1.21K/1%" at 59,148 h25
  text "RESISTOR_R0603_1.21K/1%" at -241,148 h25
  text "SR0603" at -66,209 h25
3D body: height 150, standoff 0, extent -56,-25 56,27

## RGR0020A [mm]
pads (21):
  oval 0.6x0.24 smd: 1(-1.65,1) 2(-1.65,0.5) 3(-1.65,0) 4(-1.65,-0.5) 5(-1.65,-1) 11(1.65,-1) 12(1.65,-0.5) 13(1.65,0) 14(1.65,0.5) 15(1.65,1)
  oval 0.24x0.6 smd: 6(-1,-1.65) 7(-0.5,-1.65) 8(0,-1.65) 9(0.5,-1.65) 10(1,-1.65) 16(1,1.65) 17(0.5,1.65) 18(0,1.65) 19(-0.5,1.65) 20(-1,1.65)
  rect 2.05x2.05 smd: 21(0,0)
Top Overlay:
  lines w0.2: -1.975,-1.775 -1.975,-1.975 -1.775,-1.975 ; -1.975,1.425 -1.975,1.975 -1.4,1.975 ; 1.775,-1.975 1.975,-1.975 1.975,-1.775 ; 1.775,1.975 1.975,1.975 1.975,1.775

## SIP6 [mil] "SIP6"
height 47.24
pads (6):
  rect 60x60 / inner rect 55x55 / far side rect 60x60 hole 36: 1(0,0)
  round 60 / inner round 55 / far side round 60 hole 36: 2(0,-100) 3(0,-200) 4(0,-300) 5(0,-400) 6(0,-500)
Top Overlay:
  lines w10: -50,-550 -50,50 -25,75 25,75 50,50 50,-550 -50,-550
  text ".Designator" at 25,-570 h25
  text "JP_6_SIP6_JP_6" at 268,-221 h25
  text "***" at 160,-272 h25
Mechanical 5:
  lines w10: -50,-550 -50,50 -25,75 25,75 50,50 50,-550 -50,-550
  text "***" at 186.66,-228.66 h25
  text "JP_6_SIP6_JP_6" at 259.66,-212.66 h25
  text "J5" at 25.01,-570 h25
Mechanical 14:
  text "4" at 8,-300 h10
  text "6" at 8,-500 h10
  text "3" at 8,-200 h10
  text "5" at 8,-400 h10
  text "1" at 8,0 h10
  text "2" at 8,-100 h10
Mechanical 16:
  region: -50,-550 50,-550 50,75 -50,75
  lines w1: -50,-550 -50,50 -25,75 25,75 50,50 50,-550 -50,-550
Mechanical 17:
  text "***" at 9,-447 h25
3D body: height 150, standoff 0, extent -50,-550 50,75

## SIP6_2 [mil]
pads (6):
  rect 60x60 / inner rect 55x55 / far side rect 60x60 hole 36: 1(0,0)
  round 60 / inner round 55 / far side round 60 hole 36: 2(0,-100) 3(0,-200) 4(0,-300) 5(0,-400) 6(0,-500)
Top Overlay:
  lines w10: -50,-550 50,-550 50,50 25,75 -25,75 -50,50 -50,-550
  text "***" at 160,-272 h25
  text "JP_6_SIP6_JP_6" at 268,-221 h25
  text ".Designator" at 25,-570 h25
Mechanical 5:
  lines w10: -50,-550 50,-550 50,50 25,75 -25,75 -50,50 -50,-550
  text "J5" at 25.01,-570 h25
  text "JP_6_SIP6_JP_6" at 259.66,-212.66 h25
  text "***" at 186.66,-228.66 h25
Mechanical 14:
  text "2" at 8,-100 h10
  text "1" at 8,0 h10
  text "5" at 8,-400 h10
  text "3" at 8,-200 h10
  text "6" at 8,-500 h10
  text "4" at 8,-300 h10
Mechanical 16:
  region: -50,-550 50,-550 50,75 -50,75
  lines w1: -50,-550 50,-550 50,50 25,75 -25,75 -50,50 -50,-550
Mechanical 17:
  text "***" at 9,-447 h25
3D body: height 150, standoff 0, extent -50,-550 50,75

## SIT9121AI-2B1-33E [mm]
pads (6):
  rect 1.05x1 smd: 1(0,0) 3(2.25,0) 4(2.25,1.6) 6(0,1.6)
  rect 0.65x1 smd: 2(1.125,0) 5(1.125,1.6)
Top Overlay:
  lines w0.178: -0.875,-0.75 3.125,-0.75 3.125,2.35 -0.875,2.35 -0.875,-0.75 ; -0.508,-1.508 0.508,-1.508 0,-1 -0.508,-1.508